# Altium footprint library SOD-123F.PcbLib: 1 footprints
Each footprint in its own frame and in the unit in brackets; x right, y up, seen from the top. Pads: shape width x height; smd on the part's side, far side on the other; paste and mask are expansions set on the pad; w line width, h text height; cw(c..) or ccw(c..) is an arc to the next point about the centre after c.
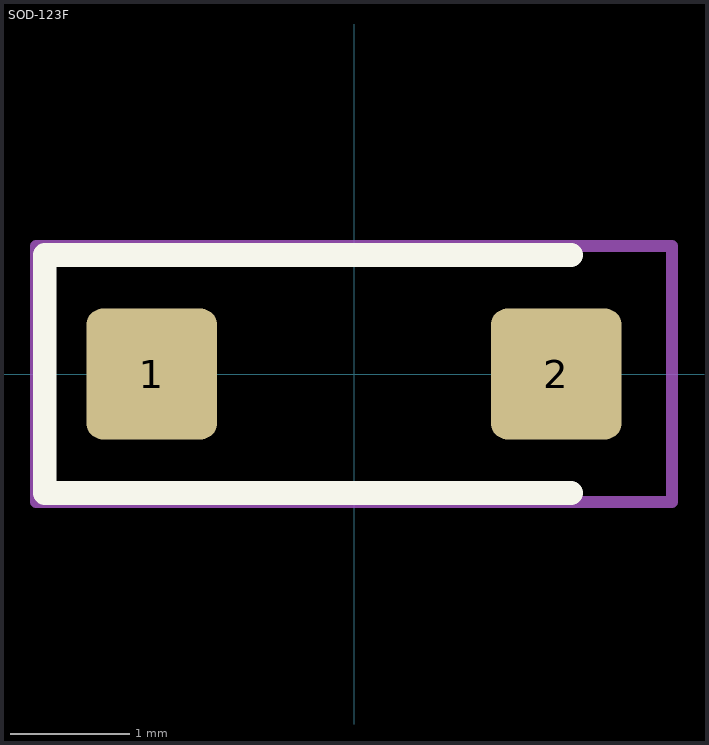
[diagram p0: the footprint, top view; thin cyan lines are the x and y axes]

## SOD-123F [mm] "SMD"
pads (2):
  rrect25% 1.1x1.1 smd: 1(-1.7,0) 2(1.7,0)
Top Overlay:
  lines w0.2: 1.825,-1 -2.6,-1 -2.6,1 1.825,1
Courtyard:
  lines w0.1: -2.675,-1.075 2.675,-1.075 2.675,1.075 -2.675,1.075 -2.675,-1.075
3D body "p35_SOD-123F.stp": height 1, standoff 0, extent -1.9,-0.8 1.9,0.8